# Altium footprint library Diode.PcbLib: 17 footprints (part 2 of 2)
Each footprint in its own frame and in the unit in brackets; x right, y up, seen from the top. Pads: shape width x height; smd on the part's side, far side on the other; paste and mask are expansions set on the pad; w line width, h text height; cw(c..) or ccw(c..) is an arc to the next point about the centre after c.
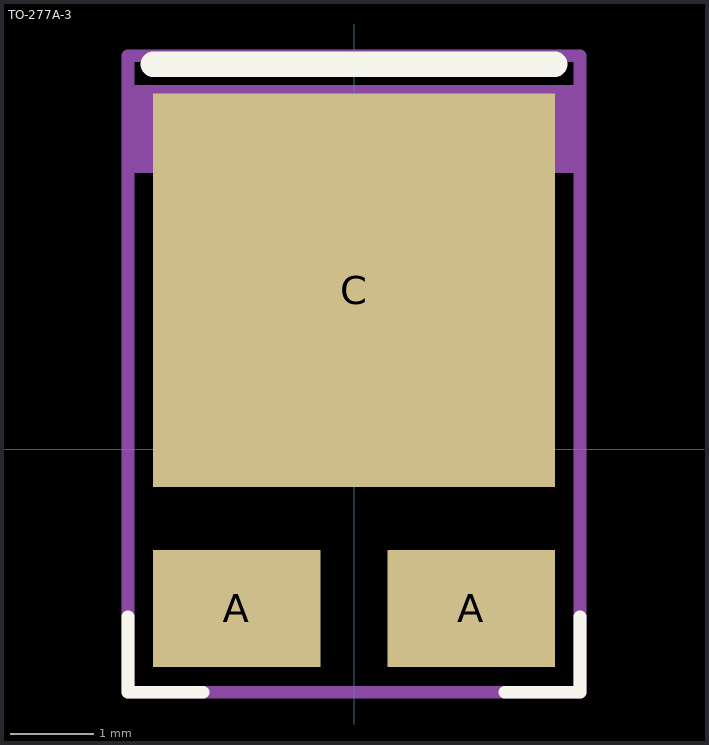
[diagram p1: the footprint, top view; thin cyan lines are the x and y axes]

## TO-277A-3 [mm]
pads (3):
  rect 2x1.4 smd: A(-1.4,-1.9) A(1.4,-1.9)
  rect 4.8x4.7 smd: C(0,1.9)
Top Overlay:
  lines w0.153: -2.7,-2 -2.7,-2.9 -1.8,-2.9 ; 1.8,-2.9 2.7,-2.9 2.7,-2
  lines w0.3: -2.4,4.6 2.4,4.6
Top Assembly:
  rectangle: -2.7,3.3 2.7,4.3
  lines w0.1: -2.7,-2.9 -2.7,4.3 2.7,4.3 2.7,-2.9 -2.7,-2.9
  text "'.Designator'" at -4.532,-0.333 h0.8
Top Courtyard (Mech6):
  lines w0.153: -0.3,0 0.3,0 ; 0,-0.3 0,0.3 ; -2.7,-2.9 -2.7,4.7 2.7,4.7 2.7,-2.9 -2.7,-2.9
3D body "User Library-DFN5x6_SO8FL.STEP": height 1.13, standoff 0, extent -2.57,-1.9 2.58,4.25